# EAGLE library part ALT4532M (library thanics_robotics)
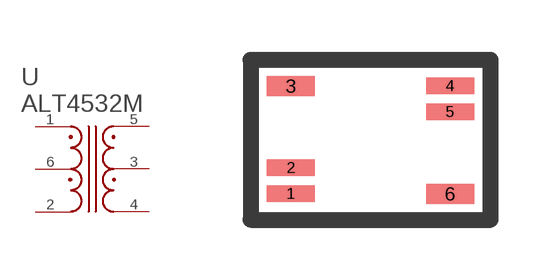
[diagram p40: symbol with the pads of ALT4532; footprint ALT4532]

Designator prefix -

## ALT4532M  [ALT4532]
1  1
2  2
3  3
4  4
5  5
6  6

## Footprint ALT4532 (pad centres in mm)
smd 1.2 x 0.41: 1 -1.99,-1.35; 2 -1.99,-0.7; 4 1.99,1.35; 5 1.99,0.7
smd 1.2 x 0.5: 3 -1.99,1.35; 6 1.99,-1.35